# EAGLE library part ESP32-S3-WROOM-1-N8 (library SamacSys_Parts)
SMD MODULE, ESP32-S3, 8 MB SPI F Source: Datasheet <https://www.espressif.com/sites/default/files/documentation/esp32-s3_datasheet_en.pdf>
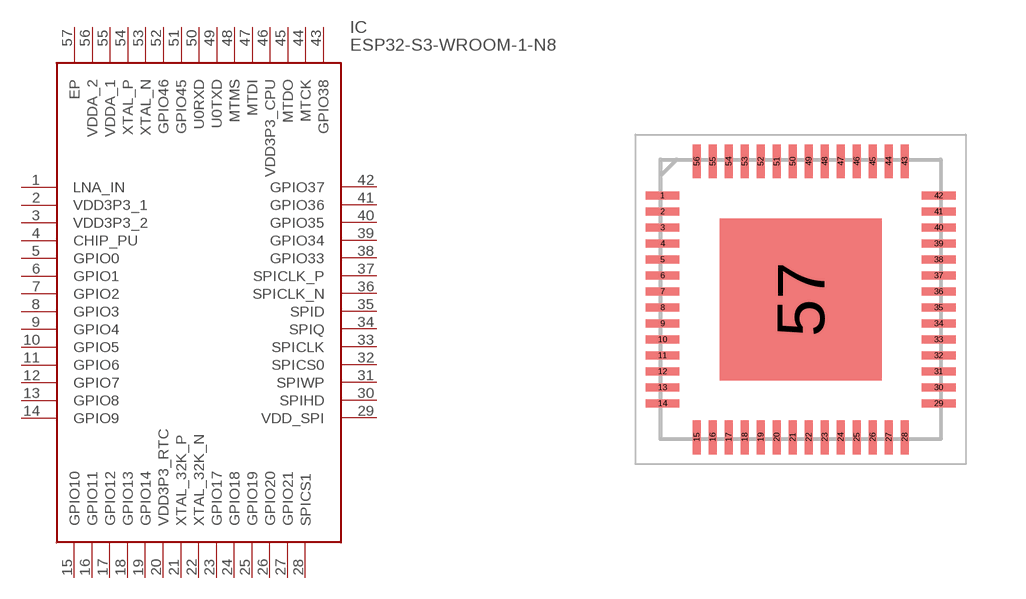
[diagram p229: symbol with the pads of QFN40P700X700X90-57N; footprint QFN40P700X700X90-57N]

Designator prefix IC

## ESP32-S3-WROOM-1-N8 (DESCRIPTION: SMD MODULE, ESP32-S3, 8 MB SPI F; HEIGHT: 0.9mm; MANUFACTURER_NAME: Espressif Systems; MANUFACTURER_PART_NUMBER: ESP32-S3-WROOM-1-N8; MOUSER_PART_NUMBER: 356-ESP32-S3WROOM1N8; MOUSER_PRICE-STOCK: https://www.mouser.co.uk/ProductDetail/Espressif-Systems/ESP32-S3-WROOM-1-N8?qs=Wj%2FVkw3K%252BMC1mq0KGPvoSQ%3D%3D)  [QFN40P700X700X90-57N]
1  LNA_IN
2  VDD3P3_1
3  VDD3P3_2
4  CHIP_PU
5  GPIO0
6  GPIO1
7  GPIO2
8  GPIO3
9  GPIO4
10  GPIO5
11  GPIO6
12  GPIO7
13  GPIO8
14  GPIO9
15  GPIO10
16  GPIO11
17  GPIO12
18  GPIO13
19  GPIO14
20  VDD3P3_RTC
21  XTAL_32K_P
22  XTAL_32K_N
23  GPIO17
24  GPIO18
25  GPIO19
26  GPIO20
27  GPIO21
28  SPICS1
29  VDD_SPI
30  SPIHD
31  SPIWP
32  SPICS0
33  SPICLK
34  SPIQ
35  SPID
36  SPICLK_N
37  SPICLK_P
38  GPIO33
39  GPIO34
40  GPIO35
41  GPIO36
42  GPIO37
43  GPIO38
44  MTCK
45  MTDO
46  VDD3P3_CPU
47  MTDI
48  MTMS
49  U0TXD
50  U0RXD
51  GPIO45
52  GPIO46
53  XTAL_N
54  XTAL_P
55  VDDA_1
56  VDDA_2
57  EP

## Footprint QFN40P700X700X90-57N (pad centres in mm)
QFN56 (77 mm) Package
smd 0.85 x 0.2: 1 -3.45,2.6; 2 -3.45,2.2; 3 -3.45,1.8; 4 -3.45,1.4; 5 -3.45,1; 6 -3.45,0.6; 7 -3.45,0.2; 8 -3.45,-0.2; 9 -3.45,-0.6; 10 -3.45,-1; 11 -3.45,-1.4; 12 -3.45,-1.8; 13 -3.45,-2.2; 14 -3.45,-2.6; 29 3.45,-2.6; 30 3.45,-2.2; 31 3.45,-1.8; 32 3.45,-1.4; 33 3.45,-1; 34 3.45,-0.6; 35 3.45,-0.2; 36 3.45,0.2; 37 3.45,0.6; 38 3.45,1; 39 3.45,1.4; 40 3.45,1.8; 41 3.45,2.2; 42 3.45,2.6
smd 0.2 x 0.85: 15 -2.6,-3.45; 16 -2.2,-3.45; 17 -1.8,-3.45; 18 -1.4,-3.45; 19 -1,-3.45; 20 -0.6,-3.45; 21 -0.2,-3.45; 22 0.2,-3.45; 23 0.6,-3.45; 24 1,-3.45; 25 1.4,-3.45; 26 1.8,-3.45; 27 2.2,-3.45; 28 2.6,-3.45; 43 2.6,3.45; 44 2.2,3.45; 45 1.8,3.45; 46 1.4,3.45; 47 1,3.45; 48 0.6,3.45; 49 0.2,3.45; 50 -0.2,3.45; 51 -0.6,3.45; 52 -1,3.45; 53 -1.4,3.45; 54 -1.8,3.45; 55 -2.2,3.45; 56 -2.6,3.45
smd 4.05 x 4.05: 57 0,0